# EAGLE library part SNESCART_CONN (library snes_div)
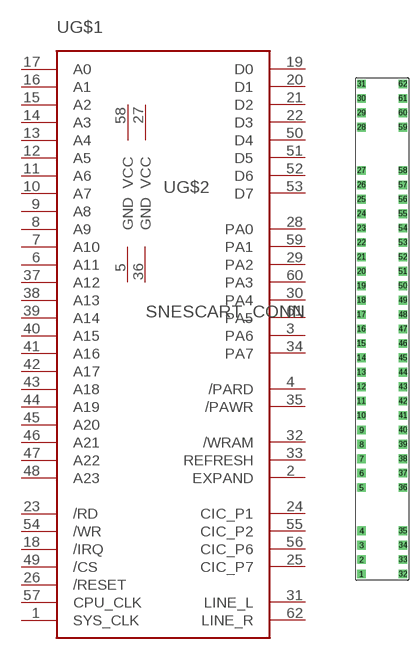
[diagram p2: symbol with the pads of SNESCART_CONN; footprint SNESCART_CONN]

Designator prefix -; gates G$1=SNESCART_CONN G$2=CART_PWR

## SNESCART_CONN  [SNESCART_CONN]
1  G$1:SYS_CLK
2  G$1:EXPAND
3  G$1:PA6
4  G$1:/PARD
5  G$2:GND  pwr
6  G$1:A11
7  G$1:A10
8  G$1:A9
9  G$1:A8
10  G$1:A7
11  G$1:A6
12  G$1:A5
13  G$1:A4
14  G$1:A3
15  G$1:A2
16  G$1:A1
17  G$1:A0
18  G$1:/IRQ
19  G$1:D0
20  G$1:D1
21  G$1:D2
22  G$1:D3
23  G$1:/RD
24  G$1:CIC_P1
25  G$1:CIC_P7
26  G$1:/RESET
27  G$2:VCC  pwr
28  G$1:PA0
29  G$1:PA2
30  G$1:PA4
31  G$1:LINE_L
32  G$1:/WRAM
33  G$1:REFRESH
34  G$1:PA7
35  G$1:/PAWR
36  G$2:GND  pwr
37  G$1:A12
38  G$1:A13
39  G$1:A14
40  G$1:A15
41  G$1:A16
42  G$1:A17
43  G$1:A18
44  G$1:A19
45  G$1:A20
46  G$1:A21
47  G$1:A22
48  G$1:A23
49  G$1:/CS
50  G$1:D4
51  G$1:D5
52  G$1:D6
53  G$1:D7
54  G$1:/WR
55  G$1:CIC_P2
56  G$1:CIC_P6
57  G$1:CPU_CLK
58  G$2:VCC  pwr
59  G$1:PA1
60  G$1:PA3
61  G$1:PA5
62  G$1:LINE_R

## Footprint SNESCART_CONN (pad centres in mm)
drill 1 square: 1 -3.6,-42.5; 2 -3.6,-40; 3 -3.6,-37.5; 4 -3.6,-35; 5 -3.6,-27.5; 6 -3.6,-25; 7 -3.6,-22.5; 8 -3.6,-20; 9 -3.6,-17.5; 10 -3.6,-15; 11 -3.6,-12.5; 12 -3.6,-10; 13 -3.6,-7.5; 14 -3.6,-5; 15 -3.6,-2.5; 16 -3.6,0; 17 -3.6,2.5; 18 -3.6,5; 19 -3.6,7.5; 20 -3.6,10; 21 -3.6,12.5; 22 -3.6,15; 23 -3.6,17.5; 24 -3.6,20; 25 -3.6,22.5; 26 -3.6,25; 27 -3.6,27.5; 28 -3.6,35; 29 -3.6,37.5; 30 -3.6,40; 31 -3.6,42.5; 32 3.6,-42.5; 33 3.6,-40; 34 3.6,-37.5; 35 3.6,-35; 36 3.6,-27.5; 37 3.6,-25; 38 3.6,-22.5; 39 3.6,-20; 40 3.6,-17.5; 41 3.6,-15; 42 3.6,-12.5; 43 3.6,-10; 44 3.6,-7.5; 45 3.6,-5; 46 3.6,-2.5; 47 3.6,0; 48 3.6,2.5; 49 3.6,5; 50 3.6,7.5; 51 3.6,10; 52 3.6,12.5; 53 3.6,15; 54 3.6,17.5; 55 3.6,20; 56 3.6,22.5; 57 3.6,25; 58 3.6,27.5; 59 3.6,35; 60 3.6,37.5; 61 3.6,40; 62 3.6,42.5